# Altium schematic symbol library Schlib_For_High_Voltage_Sensor.SchLib: 142 symbols (part 3 of 3)
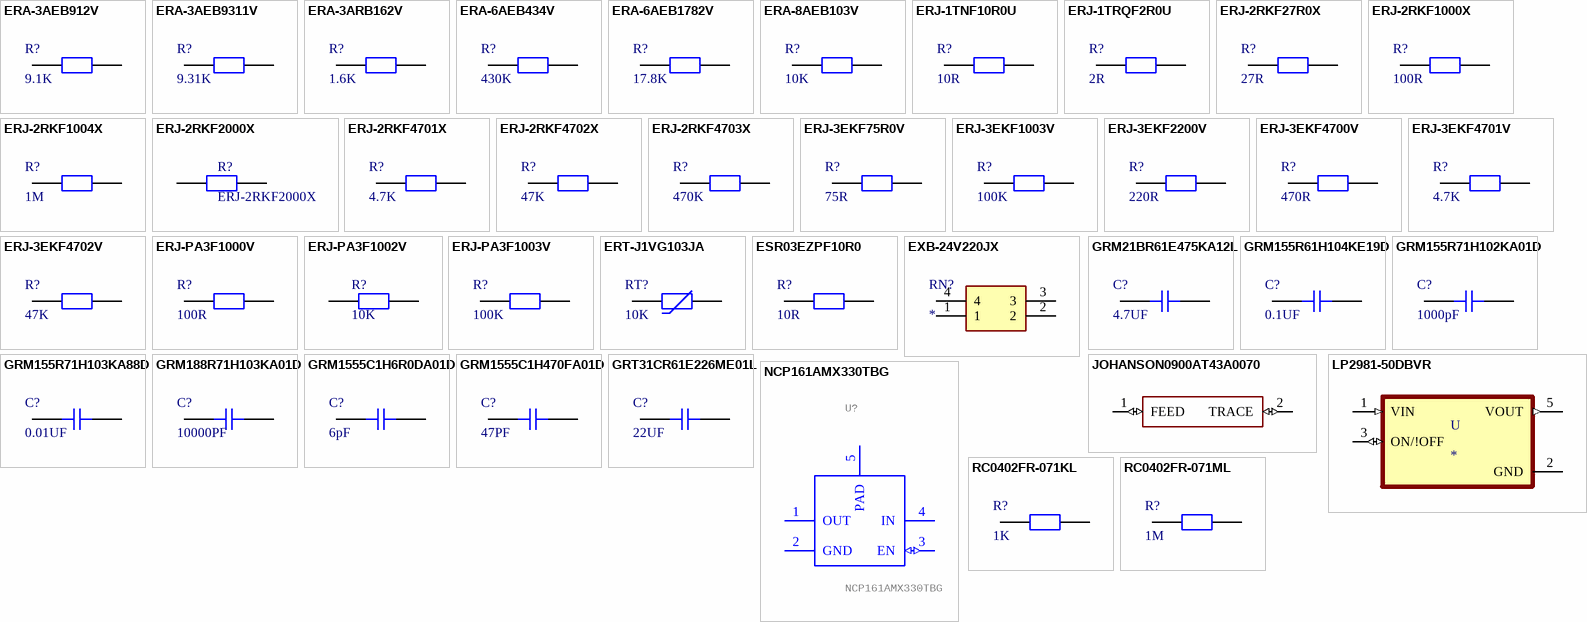
[diagram p5: symbols ERA-3AEB912V to RC0402FR-071ML]

## ERJ-2RKF4703X
designator R?, comment 470K
RES SMD 470K OHM 1% 1/10W 0402; Manufacturer: Panasonic Electronic Components; Manufacturer Part Number: ERJ-2RKF4703X; Power (Watts): 0.1W, 1/10W; Temperature Coefficient: ±100ppm/°C; Supplier 1: Digi-Key; RoHS: RoHS Compliant; Category: Resistors; Stock 1: 454819; Pricing 1: 1=0.14, 10=0.04, 100=0.0163, 1000=0.00733, 2500=0.00636, 5000=0.00525 (CAD); Packaging: Cut Tape (CT); Part Status: Active; Tolerance: ±1%; Composition: Thick Film; Features: Automotive AEC-Q200; Operating Temperature: -55°C ~ 155°C; Package / Case: 0402 (1005 Metric); Supplier Device Package: 0402; Size / Dimension: 0.039" L x 0.020" W (1.00mm x 0.50mm); Height - Seated (Max): 0.016" (0.40mm); Failure Rate: -; ComponentLink1URL: https://industrial.panasonic.com/cdbs/www-data/pdf/RDA0000/AOA0000C304.pdf; ComponentLink1Description: https://industrial.panasonic.com/cdbs/www-data/pdf/RDA0000/AOA0000C304.pdf; Supplier Part Number 1: P470KLCT-ND
footprint RESC0402 (Chip Resistor 0402, 2-Leads, Body 1.05x0.54mm, IPC High Density)
pins: 1, 2

## ERJ-3EKF75R0V
designator R?, comment 75R
RES SMD 75 OHM 1% 1/10W 0603; Manufacturer: Panasonic Electronic Components; Manufacturer Part Number: ERJ-3EKF75R0V; Resistance (Ohms): 75; Power (Watts): 0.1W, 1/10W; Temperature Coefficient: ±100ppm/°C; Supplier 1: Digi-Key; RoHS: RoHS Compliant; Category: Resistors; Stock 1: 135516; Pricing 1: 1=0.16, 10=0.031, 100=0.0127, 1000=0.00567, 2500=0.00492 (CAD); Packaging: Cut Tape (CT); Part Status: Active; Tolerance: ±1%; Composition: Thick Film; Features: Automotive AEC-Q200; Operating Temperature: -55°C ~ 155°C; Package / Case: 0603 (1608 Metric); Supplier Device Package: 0603; Size / Dimension: 0.063" L x 0.031" W (1.60mm x 0.80mm); Height - Seated (Max): 0.022" (0.55mm); Failure Rate: -; ComponentLink1URL: https://industrial.panasonic.com/cdbs/www-data/pdf/RDA0000/AOA0000C283.pdf; ComponentLink1Description: https://industrial.panasonic.com/cdbs/www-data/pdf/RDA0000/AOA0000C283.pdf; Supplier Part Number 1: P75.0HCT-ND
footprint RESC0603 (Chip Resistor 0603, 2-Leads, Body 1.60x0.82mm, IPC High Density)
pins: 1, 2

## ERJ-3EKF1003V
designator R?, comment 100K
Res Thick Film 0603 100K Ohm 1% 0.1W(1/10W) ±100ppm/C Molded SMD Automotive T/R; Manufacturer: Panasonic ECG; Manufacturer Part Number: ERJ-3EKF1003V; Resistance: 100kR; Power Rating: 100mW; Voltage Rating: 75V; Temperature Coefficient: 100ppm/°C; Supplier 1: Digi-Key; Stock 1: 6208092; Pricing 1: 1=0.1, 10=0.063, 100=0.0257, 1000=0.01153, 2500=0.01001 (USD); Mount: Surface Mount; Case/Package: 0603; Number of Pins: 2; Weight: 7.1E-05oz; Case Code (Imperial): 0603; Case Code (Metric): 1608; Contact Plating: Tin; Min Operating Temperature: -55°C; Max Operating Temperature: 155°C; Tolerance: 1%; Packaging: Tape and Reel; Composition: Thick Film; Military Standard: Not; Voltage Rating (DC): 75V; Package Quantity: 1; Termination: SMD/SMT; Number of Terminations: 2; Max Power Dissipation: 100mW; Length: 1.6mm; Height: 0.022inch; Width: 0.8mm; Depth: 0.8mm; Radiation Hardening: No; REACH SVHC: No SVHC; Lead Free: Lead Free; ComponentLink1URL: https://datasheet.ciiva.com/30133/aoa0000ce2-30133845.pdf; ComponentLink1Description: https://datasheet.ciiva.com/30133/aoa0000ce2-30133845.pdf; ComponentLink2URL: https://datasheet.ciiva.com/16740/aoa0000ce2-16740662.pdf; ComponentLink2Description: https://datasheet.ciiva.com/16740/aoa0000ce2-16740662.pdf; ComponentLink3URL: https://datasheet.ciiva.com/15158/getdatasheetpartid-247527-15158907.pdf; ComponentLink3Description: https://datasheet.ciiva.com/15158/getdatasheetpartid-247527-15158907.pdf; ComponentLink4URL: https://datasheet.ciiva.com/16770/70260748-16770253.pdf; ComponentLink4Description: https://datasheet.ciiva.com/16770/70260748-16770253.pdf; ComponentLink5URL: https://datasheet.ciiva.com/34303/1987476-34303566.pdf; ComponentLink5Description: https://datasheet.ciiva.com/34303/1987476-34303566.pdf; Supplier Part Number 1: P100KHCT-ND
footprint RESC0603 (Chip Resistor 0603, 2-Leads, Body 1.60x0.82mm, IPC High Density)
pins: 1, 2

## ERJ-3EKF2200V
designator R?, comment 220R
RES SMD 220 OHM 1% 1/10W 0603; Manufacturer: Panasonic Electronic Components; Manufacturer Part Number: ERJ-3EKF2200V; Resistance (Ohms): 220; Power (Watts): 0.1W, 1/10W; Temperature Coefficient: ±100ppm/°C; Supplier 1: Digi-Key; RoHS: RoHS Compliant; Category: Resistors; Stock 1: 3332; Pricing 1: 1=0.15, 10=0.032, 100=0.0131, 1000=0.00584, 2500=0.00507 (CAD); Packaging: Cut Tape (CT); Part Status: Active; Tolerance: ±1%; Composition: Thick Film; Features: Automotive AEC-Q200; Operating Temperature: -55°C ~ 155°C; Package / Case: 0603 (1608 Metric); Supplier Device Package: 0603; Size / Dimension: 0.063" L x 0.031" W (1.60mm x 0.80mm); Height - Seated (Max): 0.022" (0.55mm); Failure Rate: -; ComponentLink1URL: https://industrial.panasonic.com/cdbs/www-data/pdf/RDA0000/AOA0000C298.pdf; ComponentLink1Description: https://industrial.panasonic.com/cdbs/www-data/pdf/RDA0000/AOA0000C298.pdf; Supplier Part Number 1: P220HCT-ND
footprint RESC0603 (Chip Resistor 0603, 2-Leads, Body 1.60x0.82mm, IPC High Density)
pins: 1, 2

## ERJ-3EKF4700V
designator R?, comment 470R
RES SMD 470 OHM 1% 1/10W 0603; Manufacturer: Panasonic Electronic Components; Manufacturer Part Number: ERJ-3EKF4700V; Resistance (Ohms): 470; Power (Watts): 0.1W, 1/10W; Temperature Coefficient: ±100ppm/°C; Supplier 1: Digi-Key; RoHS: RoHS Compliant; Category: Resistors; Stock 1: 46505; Pricing 1: 1=0.15, 10=0.032, 100=0.0131, 1000=0.00584, 2500=0.00507 (CAD); Packaging: Cut Tape (CT); Part Status: Active; Tolerance: ±1%; Composition: Thick Film; Features: Automotive AEC-Q200; Operating Temperature: -55°C ~ 155°C; Package / Case: 0603 (1608 Metric); Supplier Device Package: 0603; Size / Dimension: 0.063" L x 0.031" W (1.60mm x 0.80mm); Height - Seated (Max): 0.022" (0.55mm); Failure Rate: -; ComponentLink1URL: https://industrial.panasonic.com/cdbs/www-data/pdf/RDA0000/AOA0000C298.pdf; ComponentLink1Description: https://industrial.panasonic.com/cdbs/www-data/pdf/RDA0000/AOA0000C298.pdf; Supplier Part Number 1: P470HCT-ND
footprint RESC0603 (Chip Resistor 0603, 2-Leads, Body 1.60x0.82mm, IPC High Density)
pins: 1, 2

## ERJ-3EKF4701V
designator R?, comment 4.7K
RES SMD 4.7K OHM 1% 1/10W 0603; Manufacturer: Panasonic Electronic Components; Manufacturer Part Number: ERJ-3EKF4701V; Power (Watts): 0.1W, 1/10W; Temperature Coefficient: ±100ppm/°C; Supplier 1: Digi-Key; RoHS: RoHS Compliant; Category: Resistors; Stock 1: 261260; Pricing 1: 1=0.14, 10=0.03, 100=0.0124, 1000=0.00556, 2500=0.00483 (CAD); Packaging: Cut Tape (CT); Part Status: Active; Tolerance: ±1%; Composition: Thick Film; Features: Automotive AEC-Q200; Operating Temperature: -55°C ~ 155°C; Package / Case: 0603 (1608 Metric); Supplier Device Package: 0603; Size / Dimension: 0.063" L x 0.031" W (1.60mm x 0.80mm); Height - Seated (Max): 0.022" (0.55mm); Failure Rate: -; ComponentLink1URL: https://industrial.panasonic.com/cdbs/www-data/pdf/RDA0000/AOA0000C304.pdf; ComponentLink1Description: https://industrial.panasonic.com/cdbs/www-data/pdf/RDA0000/AOA0000C304.pdf; Supplier Part Number 1: P4.70KHCT-ND
footprint RESC0603 (Chip Resistor 0603, 2-Leads, Body 1.60x0.82mm, IPC High Density)
pins: 1, 2

## ERJ-3EKF4702V
designator R?, comment 47K
RES SMD 47K OHM 1% 1/10W 0603; Manufacturer: Panasonic Electronic Components; Manufacturer Part Number: ERJ-3EKF4702V; Power (Watts): 0.1W, 1/10W; Temperature Coefficient: ±100ppm/°C; Supplier 1: Digi-Key; RoHS: RoHS Compliant; Category: Resistors; Stock 1: 2182977; Pricing 1: 1=0.15, 10=0.032, 100=0.0131, 1000=0.00584, 2500=0.00507 (CAD); Packaging: Cut Tape (CT); Part Status: Active; Resistance (Ohms): 47k; Tolerance: ±1%; Composition: Thick Film; Features: Automotive AEC-Q200; Operating Temperature: -55°C ~ 155°C; Package / Case: 0603 (1608 Metric); Supplier Device Package: 0603; Size / Dimension: 0.063" L x 0.031" W (1.60mm x 0.80mm); Height - Seated (Max): 0.022" (0.55mm); Failure Rate: -; ComponentLink1URL: https://industrial.panasonic.com/cdbs/www-data/pdf/RDA0000/AOA0000C298.pdf; ComponentLink1Description: https://industrial.panasonic.com/cdbs/www-data/pdf/RDA0000/AOA0000C298.pdf; Supplier Part Number 1: P47.0KHCT-ND
footprint RESC0603 (Chip Resistor 0603, 2-Leads, Body 1.60x0.82mm, IPC High Density)
pins: 1, 2

## ERJ-PA3F1000V
designator R?, comment 100R
RES SMD 100 OHM 1% 1/4W 0603; Manufacturer: Panasonic Electronic Components; Manufacturer Part Number: ERJ-PA3F1000V; Resistance (Ohms): 100; Power (Watts): 0.25W, 1/4W; Temperature Coefficient: ±100ppm/°C; Supplier 1: Digi-Key; RoHS: RoHS Compliant; Category: Resistors; Stock 1: 96462; Pricing 1: 1=0.23, 10=0.205, 25=0.142, 50=0.1102, 100=0.0789, 250=0.06144, 500=0.04884, 1000=0.03467 (CAD); Packaging: Cut Tape (CT); Part Status: Active; Tolerance: ±1%; Composition: Thick Film; Features: Automotive AEC-Q200, Pulse Withstanding; Operating Temperature: -55°C ~ 155°C; Package / Case: 0603 (1608 Metric); Supplier Device Package: 0603; Size / Dimension: 0.063" L x 0.031" W (1.60mm x 0.80mm); Height - Seated (Max): 0.022" (0.55mm); Failure Rate: -; ComponentLink1URL: https://industrial.panasonic.com/cdbs/www-data/pdf/RDO0000/AOA0000C291.pdf; ComponentLink1Description: https://industrial.panasonic.com/cdbs/www-data/pdf/RDO0000/AOA0000C291.pdf; Supplier Part Number 1: P100BYCT-ND
footprint RESC0603 (Chip Resistor 0603, 2-Leads, Body 1.60x0.82mm, IPC High Density)
pins: 1, 2

## ERJ-PA3F1002V
designator R?, comment 10K
RES SMD 10K OHM 1% 1/4W 0603; Manufacturer: Panasonic Electronic Components; Manufacturer Part Number: ERJ-PA3F1002V; Power (Watts): 0.25W, 1/4W; Temperature Coefficient: ±100ppm/°C; Supplier 1: Digi-Key; RoHS: RoHS Compliant; Category: Resistors; Stock 1: 80783; Pricing 1: 1=0.23, 10=0.205, 25=0.142, 50=0.1102, 100=0.0789, 250=0.06144, 500=0.04884, 1000=0.03467 (CAD); Packaging: Digi-Reel®; Part Status: Active; Resistance (Ohms): 10k; Tolerance: ±1%; Composition: Thick Film; Features: Automotive AEC-Q200, Pulse Withstanding; Operating Temperature: -55°C ~ 155°C; Package / Case: 0603 (1608 Metric); Supplier Device Package: 0603; Size / Dimension: 0.063" L x 0.031" W (1.60mm x 0.80mm); Height - Seated (Max): 0.022" (0.55mm); Failure Rate: -; ComponentLink1URL: https://industrial.panasonic.com/cdbs/www-data/pdf/RDO0000/AOA0000C291.pdf; ComponentLink1Description: https://industrial.panasonic.com/cdbs/www-data/pdf/RDO0000/AOA0000C291.pdf; Supplier Part Number 1: P10KBYDKR-ND
footprint RESC0603 (Chip Resistor 0603, 2-Leads, Body 1.60x0.82mm, IPC High Density)
pins: 1, 2

## ERJ-PA3F1003V
designator R?, comment 100K
RES SMD 100K OHM 1% 1/4W 0603; Manufacturer: Panasonic Electronic Components; Manufacturer Part Number: ERJ-PA3F1003V; Power (Watts): 0.25W, 1/4W; Temperature Coefficient: ±100ppm/°C; Supplier 1: Digi-Key; RoHS: RoHS Compliant; Category: Resistors; Stock 1: 30907; Pricing 1: 1=0.25, 10=0.223, 100=0.0857, 1000=0.03769, 2500=0.03256 (CAD); Packaging: Cut Tape (CT); Part Status: Active; Resistance (Ohms): 100k; Tolerance: ±1%; Composition: Thick Film; Features: Automotive AEC-Q200, Pulse Withstanding; Operating Temperature: -55°C ~ 155°C; Package / Case: 0603 (1608 Metric); Supplier Device Package: 0603; Size / Dimension: 0.063" L x 0.031" W (1.60mm x 0.80mm); Height - Seated (Max): 0.022" (0.55mm); Failure Rate: -; ComponentLink1URL: https://industrial.panasonic.com/cdbs/www-data/pdf/RDO0000/AOA0000C291.pdf; ComponentLink1Description: https://industrial.panasonic.com/cdbs/www-data/pdf/RDO0000/AOA0000C291.pdf; Supplier Part Number 1: P100KBYCT-ND
footprint RESC0603 (Chip Resistor 0603, 2-Leads, Body 1.60x0.82mm, IPC High Density)
pins: 1, 2

## ERT-J1VG103JA
designator RT?, comment 10K
NTC THERMISTOR 10K OHM 5% 0603; Manufacturer: Panasonic Electronic Components; Manufacturer Part Number: ERT-J1VG103JA; B Value Tolerance: ±1%; B25/50: 3375K; B25/85: 3435K; Supplier 1: Digi-Key; RoHS: RoHS Compliant; Category: Sensors, Transducers; Stock 1: 76880; Pricing 1: 1=0.32, 5=0.314, 10=0.278, 25=0.2568, 50=0.2052, 100=0.176, 500=0.15392, 1000=0.13193 (CAD); Packaging: Cut Tape (CT); Part Status: Active; Resistance in Ohms @ 25°C: 10k; Resistance Tolerance: ±5%; B0/50: -; B25/75: -; B25/100: -; Operating Temperature: -40°C ~ 125°C; Length - Lead Wire: -; Mounting Type: Surface Mount; Package / Case: 0603 (1608 Metric); ComponentLink1URL: http://industrial.panasonic.com/www-cgi/jvcr13pz.cgi?E+PZ+3+AUA0001+ERTJ1VG103JA+7+WW; ComponentLink1Description: http://industrial.panasonic.com/www-cgi/jvcr13pz.cgi?E+PZ+3+AUA0001+ERTJ1VG103JA+7+WW; Supplier Part Number 1: P12014CT-ND
footprint RESC0603 (Chip Resistor 0603, 2-Leads, Body 1.60x0.82mm, IPC High Density)
pins: 1, 2

## ESR03EZPF10R0
designator R?, comment 10R
RES SMD 10 OHM 1% 1/4W 0603; Manufacturer: Rohm Semiconductor; Manufacturer Part Number: ESR03EZPF10R0; Power (Watts): 0.25W, 1/4W; Temperature Coefficient: ±100ppm/°C; Supplier 1: Digi-Key; RoHS: RoHS Compliant; Category: Resistors; Stock 1: 49321; Pricing 1: 1=0.23, 10=0.204, 100=0.0786, 1000=0.03459, 2500=0.02987 (CAD); Packaging: Cut Tape (CT); Part Status: Active; Tolerance: ±1%; Composition: Thick Film; Features: Automotive AEC-Q200, Pulse Withstanding; Operating Temperature: -55°C ~ 155°C; Package / Case: 0603 (1608 Metric); Supplier Device Package: 0603; Size / Dimension: 0.063" L x 0.032" W (1.60mm x 0.80mm); Height - Seated (Max): 0.022" (0.55mm); Failure Rate: -; ComponentLink1URL: http://www.rohm.com/web/global/datasheet/ESR01MZPF/esr-e; ComponentLink1Description: http://www.rohm.com/web/global/datasheet/ESR01MZPF/esr-e; Supplier Part Number 1: RHM10.0ADCT-ND
footprint RESC0603 (Chip Resistor 0603, 2-Leads, Body 1.60x0.82mm, IPC High Density)
pins: 1, 2

## EXB-24V220JX
designator RN?
Resistor Network; Manufacturer_Name: Panasonic; Manufacturer_Part_Number: EXB-24V220JX; Datasheet Link: https://www.snapeda.com/parts/EXB-24V220JX/Panasonic%20Electronic/datasheet/; Height: 0.45mm; Mouser Part Number: 667-EXB-24V220JX; Mouser Price/Stock: https://www.mouser.co.uk/ProductDetail/Panasonic/EXB-24V220JX?qs=oE3VwAv%2FYtkKhK0m4TkqFQ%3D%3D
footprint EXB24V220JX
pins: 1, 2, 3, 4

## GRM21BR61E475KA12L
designator C?, comment 4.7UF
CAP CER 4.7UF 25V X5R 0805; Manufacturer: Murata Electronics North America; Manufacturer Part Number: GRM21BR61E475KA12L; Capacitance: 4.7µF; Tolerance: ±10%; Supplier 1: Digi-Key; RoHS: RoHS Compliant; Category: Capacitors; Stock 1: 1714857; Pricing 1: 1=0.23, 10=0.161, 25=0.1172, 50=0.0912, 100=0.0755, 250=0.06252, 500=0.05294, 1000=0.04384 (CAD); Packaging: Cut Tape (CT); Part Status: Active; Voltage - Rated: 25V; Temperature Coefficient: X5R; Operating Temperature: -55°C ~ 85°C; Features: -; Ratings: -; Applications: General Purpose; Mounting Type: Surface Mount, MLCC; Package / Case: 0805 (2012 Metric); Size / Dimension: 0.079" L x 0.049" W (2.00mm x 1.25mm); Height - Seated (Max): -; Thickness (Max): 0.053" (1.35mm); Lead Spacing: -; Lead Style: -; ComponentLink1URL: http://www.murata.com/~/media/webrenewal/support/library/catalog/products/capacitor/mlcc/c02e.ashx; ComponentLink1Description: http://www.murata.com/~/media/webrenewal/support/library/catalog/products/capacitor/mlcc/c02e.ashx; Supplier Part Number 1: 490-3335-1-ND
footprint CAPC0402 (Chip Capacitor 0402, 2-Leads, Body 1.00x0.50mm, IPC High Density)
pins: 1, 2

## GRM155R61H104KE19D
designator C?, comment 0.1UF
CAP CER 0.1UF 50V X5R 0402; Manufacturer: Murata Electronics North America; Manufacturer Part Number: GRM155R61H104KE19D; Capacitance: 0.1µF; Tolerance: ±10%; Supplier 1: Digi-Key; RoHS: RoHS Compliant; Category: Capacitors; Stock 1: 649334; Pricing 1: 1=0.14, 10=0.089, 25=0.0656, 50=0.0488, 100=0.04, 250=0.03348, 500=0.02858, 1000=0.02246, 5000=0.01879 (CAD); Packaging: Cut Tape (CT); Part Status: Active; Voltage - Rated: 50V; Temperature Coefficient: X5R; Operating Temperature: -55°C ~ 85°C; Features: -; Ratings: -; Applications: General Purpose; Mounting Type: Surface Mount, MLCC; Package / Case: 0402 (1005 Metric); Size / Dimension: 0.039" L x 0.020" W (1.00mm x 0.50mm); Height - Seated (Max): -; Thickness (Max): 0.022" (0.55mm); Lead Spacing: -; Lead Style: -; ComponentLink1URL: http://www.murata.com/~/media/webrenewal/support/library/catalog/products/capacitor/mlcc/c02e.ashx; ComponentLink1Description: http://www.murata.com/~/media/webrenewal/support/library/catalog/products/capacitor/mlcc/c02e.ashx; Supplier Part Number 1: 490-11917-1-ND
footprint CAPC0402 (Chip Capacitor 0402, 2-Leads, Body 1.00x0.50mm, IPC High Density)
pins: 1, 2

## GRM155R71H102KA01D
designator C?, comment 1000pF
CAP CER 1000PF 50V X7R 0402; Manufacturer: Murata Electronics North America; Manufacturer Part Number: GRM155R71H102KA01D; Tolerance: ±10%; Supplier 1: Digi-Key; RoHS: RoHS Compliant; Category: Capacitors; Stock 1: 8248790; Pricing 1: 1=0.14, 10=0.016, 25=0.012, 50=0.009, 100=0.0072, 250=0.00604, 500=0.00518, 1000=0.00407, 5000=0.0034 (CAD); Packaging: Cut Tape (CT); Part Status: Active; Capacitance: 1000pF; Voltage - Rated: 50V; Temperature Coefficient: X7R; Operating Temperature: -55°C ~ 125°C; Features: -; Ratings: -; Applications: General Purpose; Mounting Type: Surface Mount, MLCC; Package / Case: 0402 (1005 Metric); Size / Dimension: 0.039" L x 0.020" W (1.00mm x 0.50mm); Height - Seated (Max): -; Thickness (Max): 0.022" (0.55mm); Lead Spacing: -; Lead Style: -; ComponentLink1URL: http://www.murata.com/~/media/webrenewal/support/library/catalog/products/capacitor/mlcc/c02e.ashx; ComponentLink1Description: http://www.murata.com/~/media/webrenewal/support/library/catalog/products/capacitor/mlcc/c02e.ashx; Supplier Part Number 1: 490-1303-1-ND
footprint CAPC0402 (Chip Capacitor 0402, 2-Leads, Body 1.00x0.50mm, IPC High Density)
pins: 1, 2

## GRM155R71H103KA88D
designator C?, comment 0.01UF
CAP CER 10000PF 50V X7R 0402; Manufacturer: Murata Electronics North America; Manufacturer Part Number: GRM155R71H103KA88D; Tolerance: ±10%; Supplier 1: Digi-Key; RoHS: RoHS Compliant; Category: Capacitors; Stock 1: 7289295; Pricing 1: 1=0.14, 10=0.016, 25=0.0108, 50=0.0084, 100=0.0068, 250=0.00568, 500=0.00486, 1000=0.00382, 5000=0.00319 (CAD); Packaging: Cut Tape (CT); Part Status: Active; Capacitance: 10000pF; Voltage - Rated: 50V; Temperature Coefficient: X7R; Operating Temperature: -55°C ~ 125°C; Features: -; Ratings: -; Applications: General Purpose; Mounting Type: Surface Mount, MLCC; Package / Case: 0402 (1005 Metric); Size / Dimension: 0.039" L x 0.020" W (1.00mm x 0.50mm); Height - Seated (Max): -; Thickness (Max): 0.022" (0.55mm); Lead Spacing: -; Lead Style: -; ComponentLink1URL: http://www.murata.com/~/media/webrenewal/support/library/catalog/products/capacitor/mlcc/c02e.ashx; ComponentLink1Description: http://www.murata.com/~/media/webrenewal/support/library/catalog/products/capacitor/mlcc/c02e.ashx; Supplier Part Number 1: 490-4516-1-ND
footprint CAPC0402 (Chip Capacitor 0402, 2-Leads, Body 1.00x0.50mm, IPC High Density)
pins: 1, 2

## GRM188R71H103KA01D
designator C?, comment 10000PF
CAP CER 10000PF 50V X7R 0603; Manufacturer: Murata Electronics North America; Manufacturer Part Number: GRM188R71H103KA01D; Tolerance: ±10%; Supplier 1: Digi-Key; RoHS: RoHS Compliant; Category: Capacitors; Stock 1: 5417714; Pricing 1: 1=0.14, 10=0.031, 100=0.0135, 500=0.00966, 1000=0.00758 (CAD); Packaging: Cut Tape (CT); Part Status: Active; Capacitance: 10000pF; Voltage - Rated: 50V; Temperature Coefficient: X7R; Operating Temperature: -55°C ~ 125°C; Features: -; Ratings: -; Applications: General Purpose; Mounting Type: Surface Mount, MLCC; Package / Case: 0603 (1608 Metric); Size / Dimension: 0.063" L x 0.031" W (1.60mm x 0.80mm); Height - Seated (Max): -; Thickness (Max): 0.035" (0.90mm); Lead Spacing: -; Lead Style: -; ComponentLink1URL: http://www.murata.com/~/media/webrenewal/support/library/catalog/products/capacitor/mlcc/c02e.ashx; ComponentLink1Description: http://www.murata.com/~/media/webrenewal/support/library/catalog/products/capacitor/mlcc/c02e.ashx; Supplier Part Number 1: 490-1512-1-ND
footprint CAPC0603 (Chip Capacitor 0603, 2-Leads, Body 1.60x0.80mm, IPC High Density)
pins: 1, 2

## GRM1555C1H6R0DA01D
designator C?, comment 6pF
CAP CER 6PF 50V C0G/NP0 0402; Manufacturer: Murata Electronics North America; Manufacturer Part Number: GRM1555C1H6R0DA01D; Tolerance: ±0.5pF; Temperature Coefficient: C0G, NP0; Supplier 1: Digi-Key; RoHS: RoHS Compliant; Category: Capacitors; Stock 1: 208432; Pricing 1: 1=0.14, 10=0.043, 100=0.0193, 500=0.01378, 1000=0.01084, 2500=0.00985, 5000=0.00906 (CAD); Packaging: Cut Tape (CT); Part Status: Active; Voltage - Rated: 50V; Operating Temperature: -55°C ~ 125°C; Features: -; Ratings: -; Applications: General Purpose; Mounting Type: Surface Mount, MLCC; Package / Case: 0402 (1005 Metric); Size / Dimension: 0.039" L x 0.020" W (1.00mm x 0.50mm); Height - Seated (Max): -; Thickness (Max): 0.022" (0.55mm); Lead Spacing: -; Lead Style: -; ComponentLink1URL: http://www.murata.com/~/media/webrenewal/support/library/catalog/products/capacitor/mlcc/c02e.ashx?la=en-us; ComponentLink1Description: http://www.murata.com/~/media/webrenewal/support/library/catalog/products/capacitor/mlcc/c02e.ashx?la=en-us; Supplier Part Number 1: 490-5877-1-ND
footprint CAPC0402 (Chip Capacitor 0402, 2-Leads, Body 1.00x0.50mm, IPC High Density)
pins: 1, 2

## GRM1555C1H470FA01D
designator C?, comment 47PF
CAP CER 47PF 50V C0G/NP0 0402; Manufacturer: Murata Electronics North America; Manufacturer Part Number: GRM1555C1H470FA01D; Tolerance: ±1%; Temperature Coefficient: C0G, NP0; Supplier 1: Digi-Key; RoHS: RoHS Compliant; Category: Capacitors; Stock 1: 779809; Pricing 1: 1=0.15, 10=0.073, 100=0.0324, 500=0.02316, 1000=0.01819, 2500=0.01654, 5000=0.01522 (CAD); Packaging: Cut Tape (CT); Part Status: Active; Capacitance: 47pF; Voltage - Rated: 50V; Operating Temperature: -55°C ~ 125°C; Features: -; Ratings: -; Applications: General Purpose; Mounting Type: Surface Mount, MLCC; Package / Case: 0402 (1005 Metric); Size / Dimension: 0.039" L x 0.020" W (1.00mm x 0.50mm); Height - Seated (Max): -; Thickness (Max): 0.022" (0.55mm); Lead Spacing: -; Lead Style: -; ComponentLink1URL: http://www.murata.com/~/media/webrenewal/support/library/catalog/products/capacitor/mlcc/c02e.ashx; ComponentLink1Description: http://www.murata.com/~/media/webrenewal/support/library/catalog/products/capacitor/mlcc/c02e.ashx; Supplier Part Number 1: 490-6241-1-ND
footprint CAPC0402 (Chip Capacitor 0402, 2-Leads, Body 1.00x0.50mm, IPC High Density)
pins: 1, 2

## GRT31CR61E226ME01L
designator C?, comment 22UF
CAP CER 22µF 25V X5R 1206 (3216 Metric) 0.126" L x 0.063" W (3.20mm x 1.60mm); Manufacturer 1: Murata; Manufacturer Part Number 1: GRT31CR61E226ME01L; Tolerance: 20%; Description 1: 22µF 25V Ceramic Capacitor X5R 1206 (3216 Metric) 0.126" L x 0.063" W (3.20mm x 1.60mm); Mount: Surface Mount; Case/Package: 1206; Case Code (Metric): 3216; Case Code (Imperial): 1206; Min Operating Temperature: -55°C; Max Operating Temperature: 85°C; Packaging: Tape and Reel; Capacitance: 22uF; Voltage Rating: 25V; Length: 0.126inch; Width: 0.063inch; Thickness: 0.071inch; ComponentLink1URL: http://search.murata.co.jp/Ceramy/image/img/A01X/G101/ENG/GRT31CR61E226ME01-01.pdf; ComponentLink1Description: http://search.murata.co.jp/Ceramy/image/img/A01X/G101/ENG/GRT31CR61E226ME01-01.pdf; Pricing 1: 1=0.59, 10=0.42, 100=0.2769, 500=0.20508, 1000=0.17432 (USD); Stock 1: 20000; Supplier 1: Digi-Key; Supplier Part Number 1: 490-12451-1-ND
footprint CAPC1206 (Chip Capacitor 1206, 2-Leads, Body 3.20x1.60mm, IPC High Density)
pins: 1, 2

## JOHANSON0900AT43A0070
designator U$?  (value not drawn)
Johanson dual wide band antenna http://www.mouser.com/new/Johanson/johanson-0900at43a0070/; GateName_1: G$1; SymbolName_1: JOHANSON0900AT43A0070; LibraryName: Kris; DeviceSetName: JOHANSON0900AT43A0070
footprint JOHANSON0900AT43A0070
pins: 1 FEED (io), 2 TRACE (io)

## LP2981-50DBVR
designator U
100-mA, 16-V, low-dropout voltage regulator with enable 5-SOT-23 -40 to 125; MP: LP2981-50DBVR; MF: Texas Instruments; Package: SOT-23-5 Texas Instruments; SnapEDA_Link: https://www.snapeda.com/parts/LP2981-50DBVR/Texas%20Instruments/view-part/472200/?ref=snap; DigiKey-Purchase-URL: https://snapeda.com/shop?store=DigiKey&id=472200; Value: *; Arrow_Electronics-Purchase-URL: https://snapeda.com/shop?store=Arrow+Electronics&id=472200; Availability: Unavailable; Texas_Instruments-Purchase-URL: https://snapeda.com/shop?store=Texas+Instruments&id=472200; Price: None; Mouser-Purchase-URL: https://snapeda.com/shop?store=Mouser&id=472200
footprint SOT95P280X145-5N
pins: 1 VIN (in), 2 GND (power), 3 ON/!OFF (io), 5 VOUT (out)

## NCP161AMX330TBG
designator U?
NCP161 3V3 LDO voltage regulator, NCP161AMX330TBG-XDFN4; GateName_1: G$1; SymbolName_1: NCP161; LibraryName: Kris; DeviceSetName: NCP161; ComponentLink1Description: Documentation; ComponentLink1URL: https://www.mouser.ca/datasheet/2/308/NCP161_D-1551485.pdf
footprint NCP161BMX330TBG-XDFN4 (Linear Voltage Requlator IC 450mA, XDFN4)
pins: 1 OUT (power), 2 GND (power), 3 EN (io), 4 IN (power), 5 PAD (power)

## RC0402FR-071KL
designator R?, comment 1K
RES SMD 1K OHM 1% 1/16W 0402; Manufacturer: Yageo; Manufacturer Part Number: RC0402FR-071KL; Power (Watts): 0.063W, 1/16W; Temperature Coefficient: ±100ppm/°C; Supplier 1: Digi-Key; RoHS: RoHS Compliant; Category: Resistors; Stock 1: 906126; Pricing 1: 1=0.14, 10=0.02, 100=0.008, 1000=0.00362, 2500=0.00314, 5000=0.00259 (CAD); Packaging: Cut Tape (CT); Part Status: Active; Tolerance: ±1%; Composition: Thick Film; Features: Moisture Resistant; Operating Temperature: -55°C ~ 155°C; Package / Case: 0402 (1005 Metric); Supplier Device Package: 0402; Size / Dimension: 0.039" L x 0.020" W (1.00mm x 0.50mm); Height - Seated (Max): 0.016" (0.40mm); Failure Rate: -; ComponentLink1URL: http://www.yageo.com/documents/recent/PYu-RC_Group_51_RoHS_L_7.pdf; ComponentLink1Description: http://www.yageo.com/documents/recent/PYu-RC_Group_51_RoHS_L_7.pdf; Supplier Part Number 1: 311-1.00KLRCT-ND
footprint RESC0402 (Chip Resistor 0402, 2-Leads, Body 1.05x0.54mm, IPC High Density)
pins: 1, 2

## RC0402FR-071ML
designator R?, comment 1M
RES SMD 1M OHM 1% 1/16W 0402; Manufacturer: Yageo; Manufacturer Part Number: RC0402FR-071ML; Power (Watts): 0.063W, 1/16W; Temperature Coefficient: ±100ppm/°C; Supplier 1: Digi-Key; RoHS: RoHS Compliant; Category: Resistors; Stock 1: 5390352; Pricing 1: 1=0.14, 10=0.02, 100=0.0081, 1000=0.00364, 2500=0.00316, 5000=0.00261 (CAD); Packaging: Cut Tape (CT); Part Status: Active; Tolerance: ±1%; Composition: Thick Film; Features: Moisture Resistant; Operating Temperature: -55°C ~ 155°C; Package / Case: 0402 (1005 Metric); Supplier Device Package: 0402; Size / Dimension: 0.039" L x 0.020" W (1.00mm x 0.50mm); Height - Seated (Max): 0.016" (0.40mm); Failure Rate: -; ComponentLink1URL: http://www.yageo.com/documents/recent/PYu-RC_Group_51_RoHS_L_7.pdf; ComponentLink1Description: http://www.yageo.com/documents/recent/PYu-RC_Group_51_RoHS_L_7.pdf; Supplier Part Number 1: 311-1.00MLRCT-ND
footprint RESC0402 (Chip Resistor 0402, 2-Leads, Body 1.05x0.54mm, IPC High Density)
pins: 1, 2

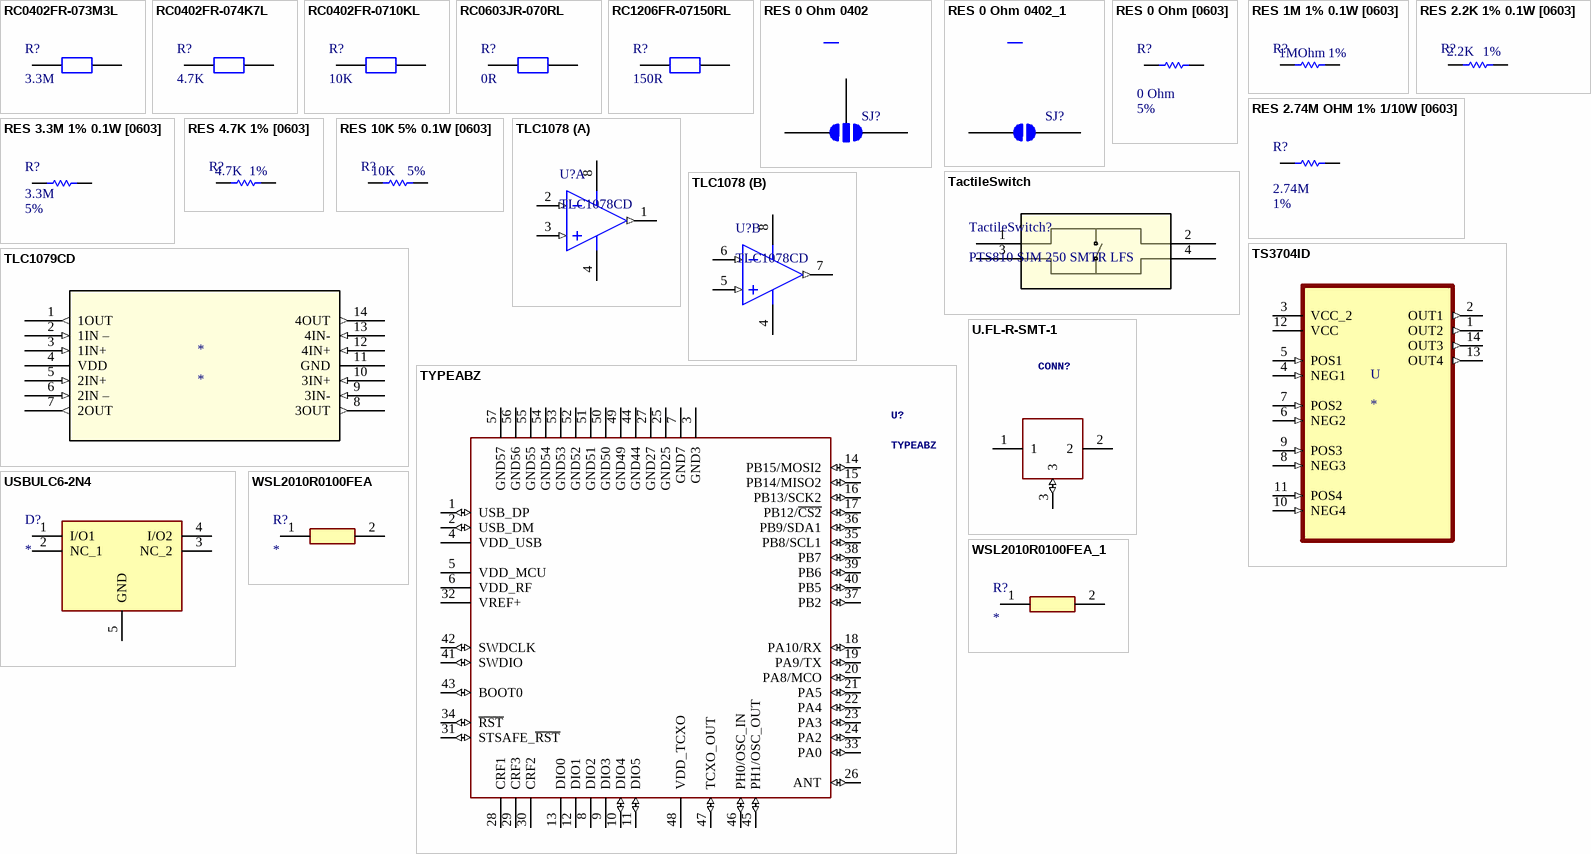
[diagram p3: symbols RC0402FR-073M3L to WSL2010R0100FEA_1]

## RC0402FR-073M3L
designator R?, comment 3.3M
RES SMD 3.3M OHM 1% 1/16W 0402; Manufacturer: Yageo; Manufacturer Part Number: RC0402FR-073M3L; Power (Watts): 0.063W, 1/16W; Temperature Coefficient: ±100ppm/°C; Supplier 1: Digi-Key; RoHS: RoHS Compliant; Category: Resistors; Stock 1: 2599159; Pricing 1: 1=0.14, 10=0.02, 100=0.0079, 1000=0.00355, 2500=0.00308, 5000=0.00255 (CAD); Packaging: Cut Tape (CT); Part Status: Active; Tolerance: ±1%; Composition: Thick Film; Features: Moisture Resistant; Operating Temperature: -55°C ~ 155°C; Package / Case: 0402 (1005 Metric); Supplier Device Package: 0402; Size / Dimension: 0.039" L x 0.020" W (1.00mm x 0.50mm); Height - Seated (Max): 0.016" (0.40mm); Failure Rate: -; ComponentLink1URL: http://www.yageo.com/documents/recent/PYu-RC_Group_51_RoHS_L_7.pdf; ComponentLink1Description: http://www.yageo.com/documents/recent/PYu-RC_Group_51_RoHS_L_7.pdf; Supplier Part Number 1: 311-3.30MLRCT-ND
footprint RESC0402 (Chip Resistor 0402, 2-Leads, Body 1.05x0.54mm, IPC High Density)
pins: 1, 2

## RC0402FR-074K7L
designator R?, comment 4.7K
RES SMD 4.7K OHM 1% 1/16W 0402; Manufacturer: Yageo; Manufacturer Part Number: RC0402FR-074K7L; Power (Watts): 0.063W, 1/16W; Temperature Coefficient: ±100ppm/°C; Supplier 1: Digi-Key; RoHS: RoHS Compliant; Category: Resistors; Stock 1: 5640376; Pricing 1: 1=0.14, 10=0.02, 100=0.008, 1000=0.00362, 2500=0.00314, 5000=0.00259 (CAD); Packaging: Cut Tape (CT); Part Status: Active; Tolerance: ±1%; Composition: Thick Film; Features: Moisture Resistant; Operating Temperature: -55°C ~ 155°C; Package / Case: 0402 (1005 Metric); Supplier Device Package: 0402; Size / Dimension: 0.039" L x 0.020" W (1.00mm x 0.50mm); Height - Seated (Max): 0.016" (0.40mm); Failure Rate: -; Supplier Part Number 1: 311-4.7KLRCT-ND; ComponentLink1Description: Yageo; ComponentLink1URL: https://www.yageo.com/upload/media/product/productsearch/datasheet/rchip/PYu-RC_Group_51_RoHS_L_11.pdf
footprint RESC0402 (Chip Resistor 0402, 2-Leads, Body 1.05x0.54mm, IPC High Density)
pins: 1, 2

## RC0402FR-0710KL
designator R?, comment 10K
RES SMD 10K OHM 1% 1/16W 0402; Manufacturer: Yageo; Manufacturer Part Number: RC0402FR-0710KL; Power (Watts): 0.063W, 1/16W; Temperature Coefficient: ±100ppm/°C; Supplier 1: Digi-Key; RoHS: RoHS Compliant; Category: Resistors; Stock 1: 16735384; Pricing 1: 1=0.14, 10=0.02, 100=0.0081, 1000=0.00364, 2500=0.00316, 5000=0.00261 (CAD); Packaging: Cut Tape (CT); Part Status: Active; Tolerance: ±1%; Composition: Thick Film; Features: Moisture Resistant; Operating Temperature: -55°C ~ 155°C; Package / Case: 0402 (1005 Metric); Supplier Device Package: 0402; Size / Dimension: 0.039" L x 0.020" W (1.00mm x 0.50mm); Height - Seated (Max): 0.016" (0.40mm); Failure Rate: -; ComponentLink1URL: http://www.yageo.com/documents/recent/PYu-RC_Group_51_RoHS_L_7.pdf; ComponentLink1Description: http://www.yageo.com/documents/recent/PYu-RC_Group_51_RoHS_L_7.pdf; Supplier Part Number 1: 311-10.0KLRCT-ND
footprint RESC0402 (Chip Resistor 0402, 2-Leads, Body 1.05x0.54mm, IPC High Density)
pins: 1, 2

## RC0603JR-070RL
designator R?, comment 0R
RES SMD 0.0OHM JUMPER 1/10W 0603; Manufacturer: Yageo; Manufacturer Part Number: RC0603JR-070RL; Resistance (Ohms): 0.0; Power (Watts): 0.1W, 1/10W; Supplier 1: Digi-Key; RoHS: RoHS Compliant; Category: Resistors; Stock 1: 7914505; Pricing 1: 1=0.15, 10=0.015, 25=0.0112, 50=0.0086, 100=0.0063, 250=0.00488, 500=0.0039, 1000=0.00288 (CAD); Packaging: Cut Tape (CT); Part Status: Active; Tolerance: Jumper; Composition: Thick Film; Features: Moisture Resistant; Temperature Coefficient: -; Operating Temperature: -55°C ~ 155°C; Package / Case: 0603 (1608 Metric); Supplier Device Package: 0603; Size / Dimension: 0.063" L x 0.031" W (1.60mm x 0.80mm); Height - Seated (Max): 0.022" (0.55mm); Failure Rate: -; ComponentLink1URL: http://www.yageo.com/documents/recent/PYu-RC_Group_51_RoHS_L_7.pdf; ComponentLink1Description: http://www.yageo.com/documents/recent/PYu-RC_Group_51_RoHS_L_7.pdf; Supplier Part Number 1: 311-0.0GRCT-ND
footprint RESC0603 (Chip Resistor 0603, 2-Leads, Body 1.60x0.82mm, IPC High Density)
pins: 1, 2

## RC1206FR-07150RL
designator R?, comment 150R
RES SMD 150 OHM 1% 1/4W 1206; Manufacturer: Yageo; Manufacturer Part Number: RC1206FR-07150RL; Power (Watts): 0.25W, 1/4W; Temperature Coefficient: ±100ppm/°C; Supplier 1: Digi-Key; RoHS: RoHS Compliant; Category: Resistors; Stock 1: 1220178; Pricing 1: 1=0.15, 10=0.049, 100=0.0201, 1000=0.00901, 2500=0.00782 (CAD); Packaging: Cut Tape (CT); Part Status: Active; Tolerance: ±1%; Composition: Thick Film; Features: Moisture Resistant; Operating Temperature: -55°C ~ 155°C; Package / Case: 1206 (3216 Metric); Supplier Device Package: 1206; Size / Dimension: 0.122" L x 0.063" W (3.10mm x 1.60mm); Height - Seated (Max): 0.026" (0.65mm); Failure Rate: -; ComponentLink1URL: http://www.yageo.com/documents/recent/PYu-RC_Group_51_RoHS_L_8.pdf; ComponentLink1Description: http://www.yageo.com/documents/recent/PYu-RC_Group_51_RoHS_L_8.pdf; Supplier Part Number 1: 311-150FRCT-ND
footprint RESC1206 (Chip Resistor 1206, 2-Leads, Body 3.20x1.60mm, IPC High Density)
pins: 1, 2

## RES 0 Ohm 0402
designator SJ?, comment SJ JMP SMD 3Pos  (value not drawn)
footprint SJ_3S
pins: 1, 2, 3

## RES 0 Ohm 0402_1
designator SJ?, comment SJ JMP SMD 2Pos  (value not drawn)
footprint SJ_2S
pins: 1, 2

## RES 0 Ohm [0603]
designator R?, comment value 0 Ohm  Tolerance: 5%  (hidden comment: RES 0 Ohm 5% 0.1W [0603])
Supplier 1: Mouser; Supplier Part Number 1: 667-ERJ-3GEY0R00V; Datasheet: http://industrial.panasonic.com/cdbs/www-data/pdf/RDA0000/AOA0000C301.pdf?src-supplier=Farnell
footprint RESC0603 (Chip Resistor 0603, 2-Leads, Body 1.60x0.82mm, IPC High Density)
pins: 1, 2

## RES 1M 1% 0.1W [0603]
designator R?  value 1MOhm  Tolerance: 1%  (hidden comment: RES 1M 1% 0.1W [0603])
Supplier 1: Mouser; Supplier Part Number 1: 652-CR0603FX-1004ELF; Datasheet: https://uk.rs-online.com/webdocs/0fcd/0900766b80fcdb72.pdf?src-supplier=RSComponents; Power: 0.1W
footprint RESC0603 (Chip Resistor 0603, 2-Leads, Body 1.60x0.82mm, IPC High Density)
pins: 1, 2

## RES 2.2K 1% 0.1W [0603]
designator R?  value 2.2K  Tolerance: 1%  (hidden comment: RES 2.2K 1% 0.1W [0603])
Datasheet: http://www.farnell.com/datasheets/1678782.pdf?src-supplier=Element14; Supplier 1: Digi-Key; Supplier Part Number 1: P2.20KHCT-ND
footprint RESC0603 (Chip Resistor 0603, 2-Leads, Body 1.60x0.82mm, IPC High Density)
pins: 1, 2

## RES 2.74M OHM 1% 1/10W [0603]
designator R?  value 2.74M  Tolerance: 1%  (hidden comment: RES 2.74M OHM 1% 1/10W [0603])
PN: RMCF0603FT2M74; Datasheet: https://www.seielect.com/catalog/sei-rmcf_rmcp.pdf; Supplier 1: Digi-Key; Supplier Part Number 1: 738-RMCF0603FT2M74CT-ND
footprint RESC0603 (Chip Resistor 0603, 2-Leads, Body 1.60x0.82mm, IPC High Density)
pins: 1, 2

## RES 3.3M 1% 0.1W [0603]
designator R?, comment value 3.3M  Tolerance: 5%  (hidden comment: RES 3.3M 5% 0.1W [0603])
Supplier 1: Digi-Key; Supplier Part Number 1: 541-3.30MHCT-ND
footprint RESC0603 (Chip Resistor 0603, 2-Leads, Body 1.60x0.82mm, IPC High Density)
pins: 1, 2

## RES 4.7K 1% [0603]
designator R?, comment Resistance: 4.7K  Tolerance: 1%  (hidden comment: RES 4.7K 1% 0.1W [0603])
Supplier 1: Digi-Key; Supplier Part Number 1: P4.70KHCT-ND
footprint CAPC0603 (Chip Capacitor 0603, 2-Leads, Body 1.60x0.80mm, IPC High Density)
pins: 1, 2

## RES 10K 5% 0.1W [0603]
designator R?  value 10K  Tolerance: 5%  (hidden comment: RES 10K 5% 0.1W [0603])
Supplier 1: Newark; Supplier Part Number 1: 84W7243
footprint RESC0603 (Chip Resistor 0603, 2-Leads, Body 1.60x0.82mm, IPC High Density)
pins: 1, 2

## TactileSwitch
designator TactileSwitch?, comment PTS810 SJM 250 SMTR LFS
Built_By: EMA_Cory; SourceLibrary: C&K_2020-04-10; Vendor: C&K; Datasheet: https://dznh3ojzb2azq.cloudfront.net/products/Tactile/PTS810/documents/datasheet.pdf; Manufacturer_Part_Number: PTS810 SJM 250 SMTR LFS; Copyright: Copyright (C) 2018 Accelerated Designs. All rights reserved; RefDes: RefDes; Type: DEV; ComponentLink1Description: TactileSwitch; ComponentLink1URL: https://www.digikey.com/en/products/detail/c-k/PTS810-SJM-250-SMTR-LFS/4176673
footprint PTS810_CNK
pins: 1, 2, 3, 4

## TLC1078
designator U?, comment TLC1078CD
Dual Micropower Precision Low-Voltage Operational Amplifier, 1.4 to 16 V, 0 to 70 degC, 8-pin SOIC (D8), Green (RoHS & no Sb/Br); Manufacturer: Texas Instruments; CMRR(Min)(dB): 70; Rating: Catalog; Vio (25C)(Max)(mV): 0.45; Slew Rate(Typ)(V/us): 32; Total Supply Voltage(Min)(+5V is 5, +/-5V is 10): 1.4; Total Supply Voltage(Max)(+5V is 5, +/-5V is 10): 16; Sub Family: Low Offset Voltage Amplifier (<=500uV), Low Power Amp (<=500uA), Low Supply Voltage Amplifier (<=2.7V), Precision Amplifier; Packing: TUBE; Number of Channels: 2; GBW(Typ)(MHz): 0.085; IIB(Max)(pA): 60; Iq per channel(Max)(mA): 0.017; Offset Drift(Typ)(uV/C): 1.1; ComponentLink1Description: Manufacturer URL; ComponentLink3URL: http://www.ti.com/litv/pdf/msoi002j; PackageDescription: 8-Pin Plastic Small Outline, Body 4.9 x 3.9 mm, Pitch 1.27 mm; ComponentLink2Description: Datasheet; ComponentLink2URL: http://www.ti.com/lit/ds/symlink/tlc1078.pdf; PackageVersion: 4040047-3/M, 06/2011; Mounting Technology: Surface Mount; PartNumber: TLC1078CD; DatasheetVersion: SLOS179A; Eco-Plan: Green (RoHS & no Sb/Br); ComponentLink3Description: Package Specification; PackageReference: D0008A; ComponentLink1URL: http://www.ti.com/; Code_JEDEC: MS-012
footprint D0008A_N (SOIC, 8-Leads, Body 5x4mm, Pitch 1.27mm, IPC Medium Density)
footprint D0008A_L (SOIC, 8-Leads, Body 5x4mm, Pitch 1.27mm, IPC High Density)
footprint D0008A_M (SOIC, 8-Leads, Body 5x4mm, Pitch 1.27mm, IPC Low Density)
pins on every part: 4 GND (power), 8 VDD (power)
part A pins: 1 OUT1 (out), 2 IN1- (in), 3 IN1+ (in)
part B pins: 5 IN2+ (in), 6 IN2- (in), 7 OUT2 (out)

## TLC1079CD
designator *
IC OPAMP GP 110KHZ 14SOIC; Manufacturer: Texas Instruments; Manufacturer Part Number: TLC1079CD; Voltage Gain: 114.4dB; Common Mode Rejection Ratio: 70dB; Number of Channels: 4; Slew Rate: 32V/µs; Input Offset Voltage (Vos): 850uV; Input Bias Current: 60pA; Gain Bandwidth Product: 85kHz; Max Supply Voltage: 16V; Min Supply Voltage: 1.4V; Nominal Supply Current: 92uA; Operating Supply Current: 57uA; Output Current per Channel: 30mA; Output Current: 20mA; Power Dissipation: 950mW; Supplier 1: Mouser; Stock 1: 100; Pricing 1: 1=10.05000, 10=9.07000, 50=8.65000, 100=7.18000, 250=6.54000, 500=6.12000 (USD); RoHS: Yes; Case/Package: D; Number of Pins: 14; Min Operating Temperature: 0°C; Max Operating Temperature: 70°C; Package Quantity: 50; Packaging: Rail/Tube; Number of Circuits: 4; Bandwidth: 110kHz; Max I/O Voltage: 850uV; Number of Elements: 4; Unity Gain Bandwidth Product: 85kHz; Nominal Gain Bandwidth Product: 85kHz; Number of Amplifiers: 4; Length: 8.65mm; Height: 1.58mm; Width: 3.91mm; Radiation Hardening: No; Lead Free: Lead Free; REACH SVHC: No SVHC; ComponentLink1URL: https://datasheet.ciiva.com/26848/tlc1079cd-26848131.pdf?src-supplier=IIIC; ComponentLink1Description: https://datasheet.ciiva.com/26848/tlc1079cd-26848131.pdf?src-supplier=IIIC; ComponentLink2URL: https://datasheet.ciiva.com/14464/tlc1078-14464197.pdf?src-supplier=Avnet; ComponentLink2Description: https://datasheet.ciiva.com/14464/tlc1078-14464197.pdf?src-supplier=Avnet; ComponentLink3URL: https://datasheet.ciiva.com/7709/1834303-7709964.pdf?src-supplier=Element14; ComponentLink3Description: https://datasheet.ciiva.com/7709/1834303-7709964.pdf?src-supplier=Element14; ComponentLink4URL: https://datasheet.ciiva.com/1800/tlc1078-1800607.pdf?src-supplier=Digi-Key; ComponentLink4Description: https://datasheet.ciiva.com/1800/tlc1078-1800607.pdf?src-supplier=Digi-Key; Supplier Part Number 1: 595-TLC1079CD
footprint SOIC127P600X175-14N
pins: 1 1OUT (out), 2 1IN – (in), 3 1IN+ (in), 4 VDD (power), 5 2IN+ (in), 6 2IN – (in), 7 2OUT (out), 8 3OUT (out), 9 3IN- (in), 10 3IN+ (in), 11 GND (power), 12 4IN+ (in), 13 4IN- (in), 14 4OUT (out)

## TS3704ID
designator U
Comparator Quad ???Â}8V/16V 14-Pin SOIC Tube; MF: STMicroelectronics; MP: TS3704ID; Package: SOIC-14 STMicroelectronics; Availability: Unavailable; Value: *; Price: None; SnapEDA_Link: https://www.snapeda.com/parts/TS3704ID/STMicroelectronics/view-part/561098/?ref=snap
footprint SOIC127P600X175-14N
pins: 1 OUT2 (out), 2 OUT1 (out), 3 VCC_2 (power), 4 NEG1 (in), 5 POS1 (in), 6 NEG2 (in), 7 POS2 (in), 8 NEG3 (in), 9 POS3 (in), 10 NEG4 (in), 11 POS4 (in), 12 VCC (power), 13 OUT4 (out), 14 OUT3 (out)

## TYPEABZ
designator U?
CMWX1ZZABZ-078; GateName_1: G$1; SymbolName_1: TYPEABZ; DeviceSetName: TYPEABZ
footprint CMWX1ZZABZ (muRata LoRa module)
pins: 1 USB_DP (io), 2 USB_DM (io), 3 GND3 (power), 4 VDD_USB (power), 5 VDD_MCU (power), 6 VDD_RF (power), 7 GND7 (power), 8 DIO2, 9 DIO3, 10 DIO4 (io), 11 DIO5 (io), 12 DIO1, 13 DIO0, 14 PB15/MOSI2 (io), 15 PB14/MISO2 (io), 16 PB13/SCK2 (io), 17 PB12/~{CS2} (io), 18 PA10/RX (io), 19 PA9/TX (io), 20 PA8/MCO (io), 21 PA5 (io), 22 PA4 (io), 23 PA3 (io), 24 PA2 (io), 25 GND25 (power), 26 ANT (io), 27 GND27 (power), 28 CRF1, 29 CRF3, 30 CRF2, 31 STSAFE_~{RST} (io), 32 VREF+ (power), 33 PA0 (io), 34 ~{RST} (io), 35 PB8/SCL1 (io), 36 PB9/SDA1 (io), 37 PB2 (io), 38 PB7 (io), 39 PB6 (io), 40 PB5 (io), 41 SWDIO (io), 42 SWDCLK (io), 43 BOOT0 (io), 44 GND44 (power), 45 PH1/OSC_OUT (io), 46 PH0/OSC_IN (io), 47 TCXO_OUT (io), 48 VDD_TCXO (power), 49 GND49 (power), 50 GND50 (power), 51 GND51 (power), 52 GND52 (power), 53 GND53 (power), 54 GND54 (power), 55 GND55 (power), 56 GND56 (power), 57 GND57 (power)

## U.FL-R-SMT-1
designator CONN?  (value not drawn)
GateName_1: G$1; SymbolName_1: U.FL-R-SMT-1; LibraryName: Kris; DeviceSetName: U.FL-R-SMT-1
footprint U.FL-R-SMT-1
pins: 1 (power), 2 (power), 3 (io)

## USBULC6-2N4
designator D?
TVS Diode (Bi-directional); Manufacturer_Name: STMicroelectronics; Manufacturer_Part_Number: USBULC6-2N4; Datasheet Link: https://www.mouser.com/datasheet/2/389/usbulc6-2n4-957402.pdf; Height: 0.55mm; Arrow Part Number: USBULC6-2N4; Arrow Price/Stock: https://www.arrow.com/en/products/usbulc6-2n4/stmicroelectronics; Mouser Part Number: 511-USBULC6-2N4; Mouser Price/Stock: https://www.mouser.co.uk/ProductDetail/STMicroelectronics/USBULC6-2N4?qs=Rlwi1sSxVL7F1p%2FNjkpR0Q%3D%3D
footprint SON40P100X80X55-5N-D
pins: 1 I/O1, 2 NC_1, 3 NC_2, 4 I/O2, 5 GND

## WSL2010R0100FEA
designator R?
Resistor; Manufacturer_Name: Vishay; Manufacturer_Part_Number: WSL2010R0100FEA; Datasheet Link: http://componentsearchengine.com/Datasheets/1/WSL2010R0100FEA.pdf; Mouser Part Number: 71-WSL2010R0100FEA; Mouser Price/Stock: https://www.mouser.co.uk/ProductDetail/Vishay-Dale/WSL2010R0100FEA?qs=vgLn9hCS5y9zV4J1uLqJFA%3D%3D; Arrow Part Number: WSL2010R0100FEA; Arrow Price/Stock: https://www.arrow.com/en/products/wsl2010r0100fea/vishay
footprint RESC5025X88N
pins: 1, 2

## WSL2010R0100FEA_1
designator R?
Resistor; Manufacturer_Name: Vishay; Manufacturer_Part_Number: WSL2010R0100FEA; Datasheet Link: http://componentsearchengine.com/Datasheets/1/WSL2010R0100FEA.pdf; Mouser Part Number: 71-WSL2010R0100FEA; Mouser Price/Stock: https://www.mouser.co.uk/ProductDetail/Vishay-Dale/WSL2010R0100FEA?qs=vgLn9hCS5y9zV4J1uLqJFA%3D%3D; Arrow Part Number: WSL2010R0100FEA; Arrow Price/Stock: https://www.arrow.com/en/products/wsl2010r0100fea/vishay
footprint RESC5025X88N
pins: 1, 2